# Altium footprint library Library.PcbLib: 36 footprints (part 2 of 3)
Each footprint in its own frame and in the unit in brackets; x right, y up, seen from the top. Pads: shape width x height; smd on the part's side, far side on the other; paste and mask are expansions set on the pad; w line width, h text height; cw(c..) or ccw(c..) is an arc to the next point about the centre after c.
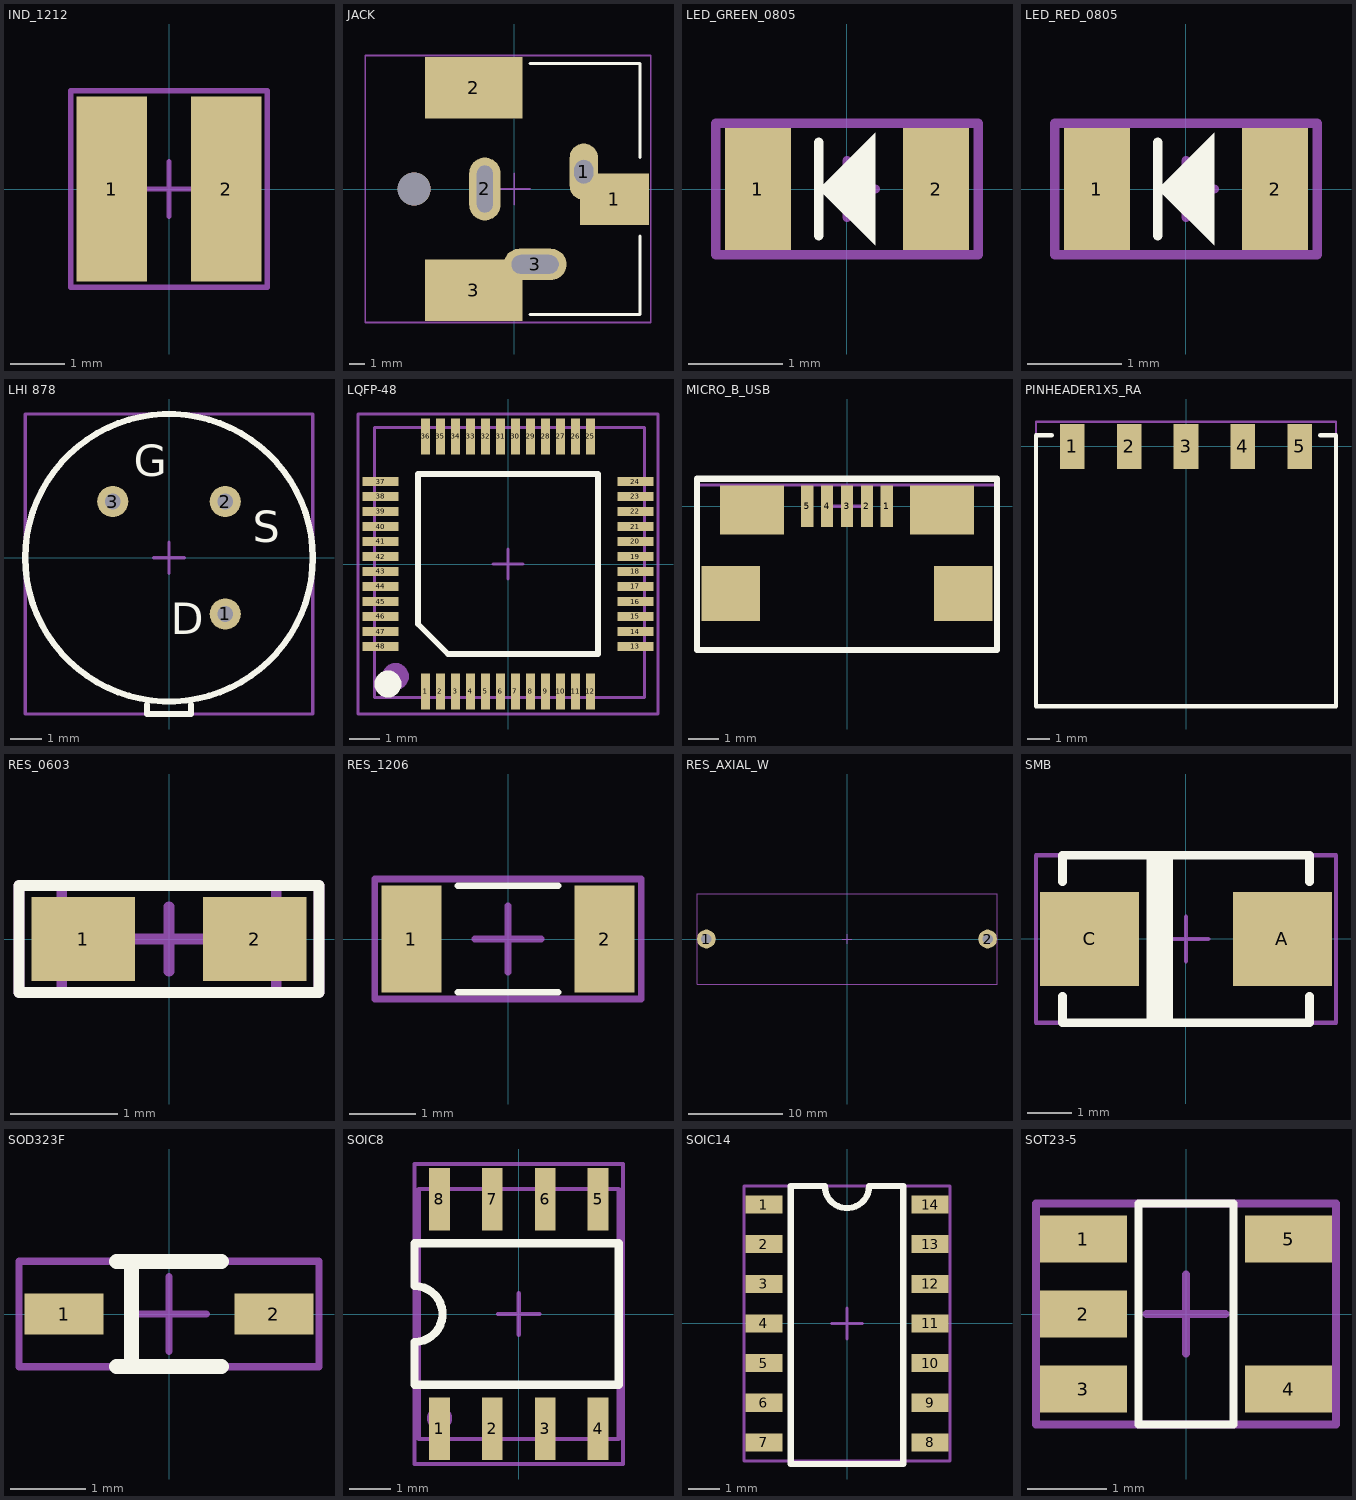
[diagram p1: the footprints below, top view; thin cyan lines are the x and y axes]

## IND_1212 [mm]
pads (2):
  rect 1.3x3.4 smd mask+0.05: 1(-1.05,0) 2(1.05,0)
Top Component Center:
  lines w0.1: -0.5,0 0.5,0 ; 0,-0.5 0,0.5 ; -1.8,-1.8 1.8,-1.8 1.8,1.8 -1.8,1.8 -1.8,-1.8
Top Designator:
  lines w0.1: -1.8,-1.8 1.8,-1.8 1.8,1.8 -1.8,1.8 -1.8,-1.8
  text "'.Designator'" at -1.6,-0.5 h1.5
3D body "78438335010_Download_STP_WE-MAIA-3015_rev1 (1).stp": height 1.2, standoff 0, extent -1.5,-1.5 1.5,1.5

## JACK [mm]
pads (7):
  oval 1.8x3.6 hole 1.2 slot 1.5 at 90 deg: 1(4.425,1.1)
  rect 4.4x3.3 smd: 1(6.375,-0.65)
  rect 6.2x3.9 smd: 2(-2.575,6.45) 3(-2.575,-6.45)
  oval 2x4 hole 1 slot 3 at 90 deg: 2(-1.875,0)
  oval 4x2 hole 1.2 slot 3 at 0 deg: 3(1.325,-4.8)
  round 2.1 hole 2.1 unplated: ""(-6.375,0)
Top Overlay:
  lines w0.2: 1,-8 8,-8 8,-3 ; 1,8 8,8 8,2
Top Component Center:
  lines w0.1: -1,0 1,0 ; 0,-1 0,1 ; -9.5,-8.5 -9.5,8.5 -6,8.5 8.7,8.5 8.7,-8.5 -9.5,-8.5
Top Designator:
  lines w0.1: -9.5,-8.5 -9.5,8.5 -6,8.5 8.7,8.5 8.7,-8.5 -9.5,-8.5
  text "'.Designator'" at -5.746,-0.238 h1.52
3D body "CUI_DEVICES_PJ-037AH-SMT-TR.step": height 11.1, standoff -3.3, extent -9.475,-7.75 7.625,7.45

## LED_GREEN_0805 [mm]
pads (2):
  rect 0.7x1.3 smd mask+0.05: 1(-0.95,0) 2(0.95,0)
Top Overlay:
  region: -0.3,0 0.3,0.6 0.3,-0.6
  lines w0.1: -0.3,-0.5 -0.3,0.5
Top Component Center:
  lines w0.1: -0.3,0 0.3,0 ; 0,-0.3 0,0.3 ; -1.4,-0.7 -1.4,0.7 1.4,0.7 1.4,-0.7 -1.4,-0.7
Top Designator:
  lines w0.1: -1.4,-0.7 -1.4,0.7 1.4,0.7 1.4,-0.7 -1.4,-0.7
  text "'.Designator'" at -1.25,-0.317 h0.7
3D body "SMD_0805LED_GREEN.STEP": height 1.1, standoff 0, extent -1.01,-0.625 1.01,0.625

## LED_RED_0805 [mm]
pads (2):
  rect 0.7x1.3 smd mask+0.05: 1(-0.95,0) 2(0.95,0)
Top Overlay:
  region: -0.3,0 0.3,0.6 0.3,-0.6
  lines w0.1: -0.3,-0.5 -0.3,0.5
Top Component Center:
  lines w0.1: -0.3,0 0.3,0 ; 0,-0.3 0,0.3 ; -1.4,-0.7 -1.4,0.7 1.4,0.7 1.4,-0.7 -1.4,-0.7
Top Designator:
  lines w0.1: -1.4,-0.7 -1.4,0.7 1.4,0.7 1.4,-0.7 -1.4,-0.7
  text "'.Designator'" at -1.25,-0.317 h0.7
3D body "SMD_0805LED_RED.STEP": height 1.1, standoff 0, extent -1.01,-0.625 1.01,0.625

## LHI 878 [mm]
pads (3):
  round 1 hole 0.5 mask+0.05: 1(1.8,-1.8) 2(1.8,1.8) 3(-1.8,1.8)
Top Overlay:
  circle w0.2: c0,0 r4.6
  lines w0.2: -0.7,-4.7 -0.7,-5 0.7,-5 0.7,-4.7
  text "G" at -1.123,2.601 h1
  text "S" at 2.677,0.501 h1
  text "D" at 0.054,-2.446 h1
Top Component Center:
  lines w0.1: -0.5,0 0.5,0 ; 0,-0.5 0,0.5 ; -4.6,-5 4.6,-5 4.6,4.6 -4.6,4.6 -4.6,-5
Top Designator:
  lines w0.1: -4.6,-5 4.6,-5 4.6,4.6 -4.6,4.6 -4.6,-5
  text "'.Designator'" at -2.846,-0.638 h1.52
3D body "User Library-LHI878.step": height 4.6, standoff -2.4, extent -4.6,-5.029 4.6,4.6

## LQFP-48 [mm] "7mm x 7mm"
pads (48):
  rect 0.3x1.2 smd mask+0.05: 1(-2.75,-4.25) 2(-2.25,-4.25) 3(-1.75,-4.25) 4(-1.25,-4.25) 5(-0.75,-4.25) 6(-0.25,-4.25) 7(0.25,-4.25) 8(0.75,-4.25) 9(1.25,-4.25) 10(1.75,-4.25) 11(2.25,-4.25) 12(2.75,-4.25) 25(2.75,4.25) 26(2.25,4.25) 27(1.75,4.25) 28(1.25,4.25) 29(0.75,4.25) 30(0.25,4.25) 31(-0.25,4.25) 32(-0.75,4.25) 33(-1.25,4.25) 34(-1.75,4.25) 35(-2.25,4.25) 36(-2.75,4.25)
  rect 1.2x0.3 smd mask+0.05: 13(4.25,-2.75) 14(4.25,-2.25) 15(4.25,-1.75) 16(4.25,-1.25) 17(4.25,-0.75) 18(4.25,-0.25) 19(4.25,0.25) 20(4.25,0.75) 21(4.25,1.25) 22(4.25,1.75) 23(4.25,2.25) 24(4.25,2.75) 37(-4.25,2.75) 38(-4.25,2.25) 39(-4.25,1.75) 40(-4.25,1.25) 41(-4.25,0.75) 42(-4.25,0.25) 43(-4.25,-0.25) 44(-4.25,-0.75) 45(-4.25,-1.25) 46(-4.25,-1.75) 47(-4.25,-2.25) 48(-4.25,-2.75)
Top Overlay:
  circle w0.5: c-4,-4 r0.2
  lines w0.2: -3,-2 -2,-3 3,-3 3,3 -3,3 -3,-2
Top 3D Body:
  circle w0.5: c-3.75,-3.75 r0.2
  lines w0.1: -4.454,-4.452 4.548,-4.452 4.548,4.551 -4.454,4.551 -4.454,-4.452
Top Component Center:
  lines w0.1: -0.5,0 0.5,0 ; 0,-0.5 0,0.5 ; -5,-5 -5,5 5,5 5,-5 -5,-5
Top Designator:
  lines w0.1: -5,-5 5,-5 5,5 -5,5 -5,-5
  text ".Designator" at -1.868,-0.258 h1.52
3D body "STM32-LQFP48.SLDPRT": height 1.5, standoff 0, extent -4.45,-4.45 4.55,4.55

## MICRO_B_USB [mm]
pads (9):
  rect 0.4x1.35 smd mask+0.05: 1(1.3,0) 2(0.65,0) 3(0,0) 4(-0.65,0) 5(-1.3,0)
  rect 1.9x1.8 smd mask+0.05: ""(-3.8,-2.85) ""(3.8,-2.85)
  rect 2.1x1.6 smd mask+0.05: ""(-3.1,-0.122) ""(3.1,-0.122)
Top Overlay:
  lines w0.2: -4.9,-4.7 -3.8,-4.7 4.9,-4.7 4.9,0.9 -4.9,0.9 -4.9,-4.7
Top Component Center:
  lines w0.1: -0.5,0 0.5,0 ; 0,-0.5 0,0.5 ; -4.9,-4.7 4.9,-4.7 4.9,0.7 -0.2,0.7 -4.9,0.7 -4.9,-4.7
Top Designator:
  lines w0.1: -4.9,-4.7 4.9,-4.7 4.9,0.7 -0.2,0.7 -4.9,0.7 -4.9,-4.7
  text "'.Designator'" at -3.146,-2.238 h1.52
3D body "10118192C.stp": height 2.79, standoff -0.22, extent -3.956,-5.461 3.956,0.2

## PINHEADER1X5_RA [mm]
pads (5):
  rect 1.1x2 smd mask+0.05: 1(-5.08,0) 2(-2.54,0) 3(0,0) 4(2.54,0) 5(5.08,0)
Top Overlay:
  lines w0.2: -6,0.5 -6.7,0.5 -6.7,-11.6 6.7,-11.6 6.7,0.5 6,0.5
Top Component Center:
  lines w0.1: -0.5,0 0.5,0 ; 0,-0.5 0,0.5 ; -6.7,-11.6 6.7,-11.6 6.7,1.1 -5.7,1.1 -6.7,1.1 -6.7,-11.6
Top Designator:
  lines w0.1: -6.7,-11.6 6.7,-11.6 6.7,1.1 -5.7,1.1 -6.7,1.1 -6.7,-11.6
  text "'.Designator'" at -4.346,-4.538 h1.52
3D body "SMH-105-02-L-S.stp": height 2.41, standoff -0.01, extent -6.604,-11.509 6.604,0.429

## RES_0603 [mil]
pads (2):
  rect 38x31 smd mask+1.97: 1(-31.5,0) 2(31.5,0)
Top Overlay:
  lines w3.94: -55.12,-19.68 55.12,-19.68 55.12,19.68 -55.12,19.68 -55.12,-19.68
Top 3D Body:
  lines w3.94: -39.37,-19.68 39.37,-19.68 39.37,19.68 -39.37,19.68 -39.37,-19.68
Top Component Center:
  lines w3.94: -11.81,0 11.81,0 ; 0,-11.81 0,11.81 ; -55.12,-19.68 55.12,-19.68 55.12,19.68 -55.12,19.68 -55.12,-19.68
Top Designator:
  lines w3.94: -55.12,-19.68 55.12,-19.68 55.12,19.68 -55.12,19.68 -55.12,-19.68
  text ".Designator" at -39.37,-9.19 h19.68
3D body "0603S1.STEP": height 16.89, standoff -0.83, extent -38.92,-18.87 38.92,19.69

## RES_1206 [mm]
pads (2):
  rect 0.9x1.6 smd mask+0.05: 1(-1.45,0) 2(1.45,0)
Top Overlay:
  lines w0.1: -0.75,-0.8 0.75,-0.8 ; -0.75,0.8 0.75,0.8
Top Component Center:
  lines w0.1: -0.5,0 0.5,0 ; 0,-0.5 0,0.5 ; -2,-0.9 2,-0.9 2,0.9 -2,0.9 -2,-0.9
Top Designator:
  lines w0.1: -2,-0.9 2,-0.9 2,0.9 -2,0.9 -2,-0.9
  text ".Designator" at -1.35,-0.383 h0.8
3D body "res1206r.STEP": height 0.55, standoff 0, extent -1.984,-0.938 1.984,0.938

## RES_AXIAL_W [mm]
pads (2):
  round 2 hole 1.1 mask+0.05: 1(-15,0) 2(15,0)
Top Component Center:
  lines w0.1: -0.5,0 0.5,0 ; 0,-0.5 0,0.5 ; -16,-4.8 -16,4.8 -10.8,4.8 16,4.8 16,-4.8 -16,-4.8
Top Designator:
  lines w0.1: -16,-4.8 -16,4.8 -10.8,4.8 16,4.8 16,-4.8 -16,-4.8
  text "'.Designator'" at -4.946,-0.438 h1.52
3D body: height 5, standoff -4, extent 14.6,-0.399 15.397,0.399
3D body: height 5.2, standoff 4.4, extent 6.3,-0.398 15.3,0.398
3D body: height 5, standoff -4, extent -15.397,-0.399 -14.6,0.399
3D body: height 5.2, standoff 4.4, extent -15.3,-0.398 -6.3,0.398
3D body: height 9.65, standoff 0, extent -11,-4.825 11,4.825
3D body: height 5.25, standoff -5.25, extent -11,-4.825 -11,-4.825

## SMB [mm]
pads (2):
  rect 2.25x2.12 smd mask+0.05: A(2.185,0) C(-2.185,0)
Top Overlay:
  rectangle: -0.9,-1.9 -0.3,1.9
  lines w0.2: -2.8,-1.3 -2.8,-1.9 2.8,-1.9 2.8,-1.3 ; -2.8,1.3 -2.8,1.9 2.8,1.9 2.8,1.3
Top Component Center:
  lines w0.1: -0.5,0 0.5,0 ; 0,-0.5 0,0.5 ; -3.4,-1.9 -3.4,1.9 3.4,1.9 3.4,-1.9 -3.4,-1.9
Top Designator:
  lines w0.1: -3.4,-1.9 3.4,-1.9 3.4,1.9 -3.4,1.9 -3.4,-1.9
  text "'.Designator'" at -2.646,-0.738 h1.52
3D body "1SMB5919BT3G.STEP": height 2.44, standoff -0.03, extent -2.72,-1.78 2.72,1.78

## SOD323F [mm]
pads (2):
  rect 1.05x0.55 smd mask+0.05: 1(-1.4,0) 2(1.4,0)
Top Overlay:
  lines w0.2: -0.7,-0.7 0.7,-0.7 ; -0.7,0.7 0.7,0.7 ; -0.5,-0.6 -0.5,0.7
Top Component Center:
  lines w0.1: -0.5,0 0.5,0 ; 0,-0.5 0,0.5 ; -2,-0.7 2,-0.7 2,0.7 -0.4,0.7 -2,0.7 -2,-0.7
Top Designator:
  lines w0.1: -2,-0.7 -2,0.7 -0.4,0.7 2,0.7 2,-0.7 -2,-0.7
  text "'.Designator'" at -1.5,-0.367 h0.7
3D body "User Library-SOD323F-1.step": height 1, standoff 0, extent -1.25,-0.675 1.25,0.675

## SOIC8 [mm]
pads (8):
  rect 0.5x1.5 smd mask+0.05: 1(-1.905,-2.75) 2(-0.635,-2.75) 3(0.635,-2.75) 4(1.905,-2.75) 5(1.905,2.75) 6(0.635,2.75) 7(-0.635,2.75) 8(-1.905,2.75)
Top Overlay:
  lines w0.2: -2.5,-1.7 -2.5,-0.671 ccw(c-2.5,0) -2.5,0.671 -2.5,1.7 2.4,1.7 2.4,-1.7 -2.5,-1.7
Top 3D Body:
  circle w0.4: c-1.9,-2.5 r0.1
  lines w0.1: -2.4,-3 2.4,-3 2.4,3 -2.4,3 -2.4,-3
Top Component Center:
  lines w0.1: -0.5,0 0.5,0 ; 0,-0.5 0,0.5 ; -2.5,-3.6 -2.5,3.6 2.5,3.6 2.5,-3.6 -0.2,-3.6 -2.5,-3.6
Top Designator:
  lines w0.1: -2.5,-3.6 -2.5,3.6 2.5,3.6 2.5,-3.6 -0.2,-3.6 -2.5,-3.6
  text ".Designator" at 0.238,-1.746 h1.52
3D body "SOIC-8-1.step": height 1.75, standoff 0, extent -2.45,-3 2.45,3

## SOIC14 [mm]
pads (14):
  rect 1.18x0.58 smd mask+0.05: 1(-2.66,3.81) 2(-2.66,2.54) 3(-2.66,1.27) 4(-2.66,0) 5(-2.66,-1.27) 6(-2.66,-2.54) 7(-2.66,-3.81) 8(2.66,-3.81) 9(2.66,-2.54) 10(2.66,-1.27) 11(2.66,0) 12(2.66,1.27) 13(2.66,2.54) 14(2.66,3.81)
Top Overlay:
  lines w0.2: -1.8,-4.5 -1.8,4.4 -0.707,4.4 ccw(c0,4.4) 0.707,4.4 1.8,4.4 1.8,-4.5 -1.8,-4.5
Top Component Center:
  lines w0.1: -0.5,0 0.5,0 ; 0,-0.5 0,0.5 ; -3.3,-4.4 3.3,-4.4 3.3,4.4 -3.3,4.4 -3.3,-4.4
Top Designator:
  lines w0.1: -3.3,-4.4 -3.3,4.4 3.3,4.4 3.3,-4.4 -3.3,-4.4
  text "'.Designator'" at -1.946,-0.138 h1.52
3D body "User Library-so14-1.step": height 1.7, standoff 0, extent -3,-4.4 3,4.4

## SOT23-5 [mm]
pads (5):
  rect 1.1x0.6 smd mask+0.05: 1(-1.3,0.95) 2(-1.3,0) 3(-1.3,-0.95) 4(1.3,-0.95) 5(1.3,0.95)
Top Overlay:
  lines w0.1: -0.6,-1.4 -0.6,1.4 0.6,1.4 0.6,-1.4 -0.6,-1.4
Top Component Center:
  lines w0.1: -0.5,0 0.5,0 ; 0,-0.5 0,0.5 ; -1.9,-1.4 1.9,-1.4 1.9,1.4 -1.9,1.4 -1.9,-1.4
Top Designator:
  lines w0.1: -1.9,-1.4 -1.9,1.4 1.9,1.4 1.9,-1.4 -1.9,-1.4
  text "'.Designator'" at -1.6,-0.567 h1.3
3D body "OPA314AIDBVR.STEP": height 1.45, standoff 0, extent -1.4,-1.45 1.4,1.45